# EAGLE library part A4988 (library stepper-driver)
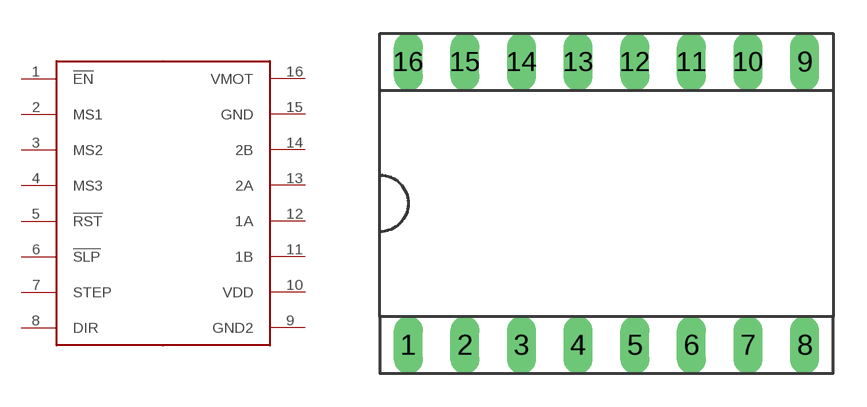
[diagram p0: symbol with the pads of FE08-2-0.6; footprint FE08-2-0.6]

Designator prefix -

## A4988  [FE08-2-0.6]
1  !EN
2  MS1
3  MS2
4  MS3
5  !RST
6  !SLP
7  STEP
8  DIR
9  GND2
10  VDD
11  1B
12  1A
13  2A
14  2B
15  GND
16  VMOT

## Footprint FE08-2-0.6 (pad centres in mm)
2 rows of 8 0.1" Female Headers 0.6" apart
drill 0.8 long: 1 -8.89,-6.35; 2 -6.35,-6.35; 3 -3.81,-6.35; 4 -1.27,-6.35; 5 1.27,-6.35; 6 3.81,-6.35; 7 6.35,-6.35; 8 8.89,-6.35; 9 8.89,6.35; 10 6.35,6.35; 11 3.81,6.35; 12 1.27,6.35; 13 -1.27,6.35; 14 -3.81,6.35; 15 -6.35,6.35; 16 -8.89,6.35